# Altium footprint library D 电容.PCBLIB: 81 footprints (part 3 of 6)
Each footprint in its own frame and in the unit in brackets; x right, y up, seen from the top. Pads: shape width x height; smd on the part's side, far side on the other; paste and mask are expansions set on the pad; w line width, h text height; cw(c..) or ccw(c..) is an arc to the next point about the centre after c.
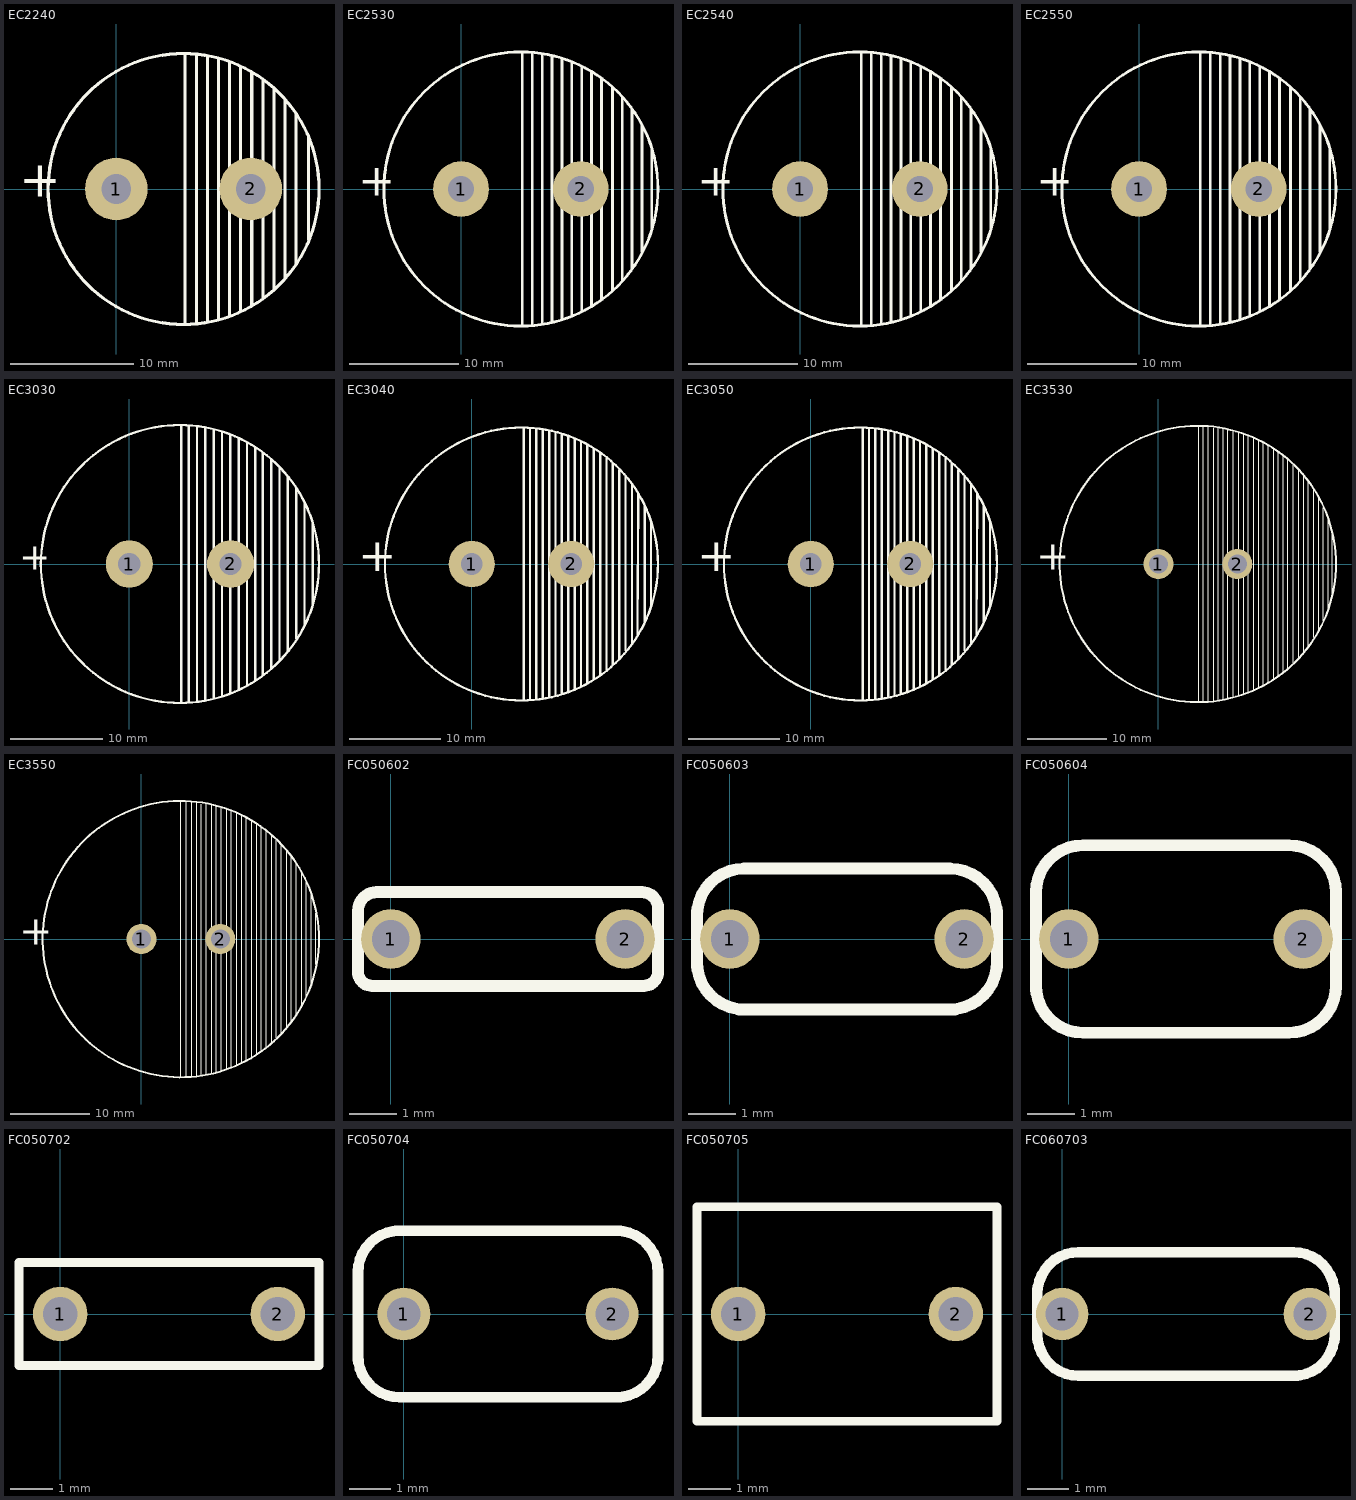
[diagram p2: the footprints below, top view; thin cyan lines are the x and y axes]

## EC2240 [mm] "电解电容/脚距10mm/直径22mm/高度40mm"
height 40
pads (2):
  round 5.08 hole 2.4: 1(0,0) 2(10.922,0)
Top Overlay:
  circle w0.254: c5.461,0 r11
  lines w0.254: 5.588,-10.922 5.588,0 ; 5.588,-6.731 5.588,10.922 ; 6.5,-10.79 6.5,10.8 ; 7.4,-10.8 7.4,10.7 ; 8.3,-10.5 8.3,10.5 ; 9.2,-10.215 9.2,10.3 ; 10.1,-9.9 10.1,9.9 ; 11,-9.4 11,9.4 ; 11.9,-8.9 11.9,8.8 ; 12.8,-8.1 12.8,8.1 ; 13.7,-7.2 13.7,7.2 ; 14.6,-6.1 14.6,6.1 ; 15.6,-4.1 15.6,4.2
  text "+" at -7.9,-1.6 h5.08
Bottom Overlay:
  text "+" at -3,-1.6 h5.08

## EC2530 [mm] "电解电容/脚距10mm/直径25mm/高度30mm"
height 30
pads (2):
  round 5.08 hole 2.4: 1(0,0) 2(10.922,0)
Top Overlay:
  circle w0.254: c5.461,0 r12.5
  lines w0.254: 5.588,-12.446 5.588,0 ; 5.588,-5.207 5.588,12.446 ; 6.5,-12.338 6.5,12.3 ; 7.4,-12.3 7.4,12.2 ; 8.3,-12.1 8.3,12.1 ; 9.2,-11.9 9.2,11.8 ; 10.1,-11.5 10.1,11.5 ; 11,-11.1 11,11.2 ; 11.9,-10.6 11.9,10.6 ; 12.8,-10.1 12.8,10.1 ; 13.8,-9.3 13.8,9.2 ; 14.7,-8.4 14.7,8.3 ; 15.6,-7.3 15.6,7.2 ; 16.5,-5.7 16.5,5.8 ; 17.4,-3.7 17.4,3.6
  text "+" at -9.4,-1.6 h5.08
Bottom Overlay:
  text "+" at -3,-1.5 h5.08

## EC2540 [mm] "电解电容/脚距10mm/直径25mm/高度40mm"
height 40
pads (2):
  round 5.08 hole 2.4: 1(0,0) 2(10.922,0)
Top Overlay:
  circle w0.254: c5.461,0 r12.5
  lines w0.254: 5.588,-12.446 5.588,0 ; 5.588,-5.207 5.588,12.446 ; 6.5,-12.338 6.5,12.3 ; 7.4,-12.3 7.4,12.2 ; 8.3,-12.1 8.3,12.1 ; 9.2,-11.9 9.2,11.8 ; 10.1,-11.5 10.1,11.5 ; 11,-11.1 11,11.2 ; 11.9,-10.6 11.9,10.6 ; 12.8,-10.1 12.8,10.1 ; 13.8,-9.3 13.8,9.2 ; 14.7,-8.4 14.7,8.3 ; 15.6,-7.3 15.6,7.2 ; 16.5,-5.7 16.5,5.8 ; 17.4,-3.7 17.4,3.6
  text "+" at -9.4,-1.6 h5.08
Bottom Overlay:
  text "+" at -3,-1.5 h5.08

## EC2550 [mm] "电解电容/脚距10mm/直径25mm/高度50mm"
height 50
pads (2):
  round 5.08 hole 2.4: 1(0,0) 2(10.922,0)
Top Overlay:
  circle w0.254: c5.461,0 r12.5
  lines w0.254: 5.588,-12.446 5.588,0 ; 5.588,-5.207 5.588,12.446 ; 6.5,-12.338 6.5,12.3 ; 7.4,-12.3 7.4,12.2 ; 8.3,-12.1 8.3,12.1 ; 9.2,-11.9 9.2,11.8 ; 10.1,-11.5 10.1,11.5 ; 11,-11.1 11,11.2 ; 11.9,-10.6 11.9,10.6 ; 12.8,-10.1 12.8,10.1 ; 13.8,-9.3 13.8,9.2 ; 14.7,-8.4 14.7,8.3 ; 15.6,-7.3 15.6,7.2 ; 16.5,-5.7 16.5,5.8 ; 17.4,-3.7 17.4,3.6
  text "+" at -9.4,-1.6 h5.08
Bottom Overlay:
  text "+" at -3,-1.5 h5.08

## EC3030 [mm] "电解电容/脚距10mm/直径30mm/高度30mm"
height 30
pads (2):
  round 5.08 hole 2.4: 1(0,0) 2(10.922,0)
Top Overlay:
  circle w0.254: c5.461,0 r15
  lines w0.254: 5.588,-14.986 5.588,0 ; 5.588,-2.667 5.588,14.986 ; 6.4,-14.818 6.4,14.9 ; 7.3,-14.8 7.3,14.8 ; 8.2,-14.7 8.2,14.6 ; 9.1,-14.5 9.1,14.5 ; 10,-14.2 10,14.2 ; 10.9,-13.9 10.9,13.9 ; 11.8,-13.5 11.8,13.5 ; 12.7,-13.062 12.7,13.1 ; 13.6,-12.5 13.6,12.5 ; 14.4,-12 14.4,12 ; 15.3,-11.179 15.3,11.3 ; 16.2,-10.4 16.2,10.4 ; 17.1,-9.3 17.1,9.4 ; 18,-8 18,8.1 ; 18.9,-6.6 18.9,6.7 ; 19.8,-4.3 19.8,4.3
  text "+" at -11.9,-1.6 h5.08
Bottom Overlay:
  text "+" at -3,-1.6 h5.08

## EC3040 [mm] "电解电容/脚距10mm/直径30mm/高度40mm"
height 40
pads (2):
  round 5.08 hole 2.4: 1(0,0) 2(10.922,0)
Top Overlay:
  circle w0.254: c5.461,0 r15
  lines w0.254: 5.7,-15 5.7,14.9 ; 6.4,-14.818 6.4,14.9 ; 7.1,-14.8 7.1,14.8 ; 7.8,-14.8 7.8,14.8 ; 8.5,-14.6 8.5,14.6 ; 9.2,-14.4 9.2,14.4 ; 9.9,-14.2 9.9,14.2 ; 10.6,-14.1 10.6,14.1 ; 11.3,-13.8 11.3,13.7 ; 12,-13.4 12,13.4 ; 12.7,-12.986 12.7,13.1 ; 13.4,-12.7 13.4,12.6 ; 14.1,-12.2 14.1,12.2 ; 14.8,-11.7 14.8,11.7 ; 15.5,-11.1 15.5,11.1 ; 16.2,-10.5 16.2,10.3 ; 16.9,-9.5 16.9,9.6 ; 17.6,-8.7 17.6,8.7 ; 18.2,-7.8 18.3,7.7 ; 19,-6.4 19,6.4 ; 19.7,-4.6 19.7,4.6
  text "+" at -12.5,-2 h6.35
Bottom Overlay:
  text "+" at -3.6,-2 h6.35

## EC3050 [mm] "电解电容/脚距10mm/直径30mm/高度50mm"
height 50
pads (2):
  round 5.08 hole 2.4: 1(0,0) 2(10.922,0)
Top Overlay:
  circle w0.254: c5.461,0 r15
  lines w0.254: 5.7,-15 5.7,14.9 ; 6.4,-14.818 6.4,14.9 ; 7.1,-14.8 7.1,14.8 ; 7.8,-14.8 7.8,14.8 ; 8.5,-14.6 8.5,14.6 ; 9.2,-14.4 9.2,14.4 ; 9.9,-14.2 9.9,14.2 ; 10.6,-14.1 10.6,14.1 ; 11.3,-13.8 11.3,13.7 ; 12,-13.4 12,13.4 ; 12.7,-12.986 12.7,13.1 ; 13.4,-12.7 13.4,12.6 ; 14.1,-12.2 14.1,12.2 ; 14.8,-11.7 14.8,11.7 ; 15.5,-11.1 15.5,11.1 ; 16.2,-10.5 16.2,10.3 ; 16.9,-9.5 16.9,9.6 ; 17.6,-8.7 17.6,8.7 ; 18.2,-7.8 18.3,7.7 ; 19,-6.4 19,6.4 ; 19.7,-4.6 19.7,4.6
  text "+" at -12.5,-2 h6.35
Bottom Overlay:
  text "+" at -3.6,-2 h6.35

## EC3530 [mm] "电解电容/脚距10mm/直径35mm/高度30mm"
height 30
pads (2):
  round 3.81 hole 2.4: 1(0,0) 2(10,0)
Top Overlay:
  circle w0.254: c5,0 r17.5
  lines w0.127: 5.1,-17.451 5.1,17.5 ; 5.7,-17.5 5.7,17.4 ; 6.3,-17.4 6.3,17.4 ; 7,-17.3 7,17.2 ; 7.6,-17.3 7.6,17.2 ; 8.2,-17.2 8.2,17.1 ; 8.8,-17 8.8,17.1 ; 9.5,-16.9 9.5,16.9 ; 10.2,-16.6 10.2,16.6 ; 10.8,-16.5 10.8,16.5 ; 11.4,-16.2 11.4,16.2 ; 12.1,-15.9 12.1,15.9 ; 12.7,-15.6 12.7,15.6 ; 13.3,-15.4 13.3,15.3 ; 13.9,-15 13.9,15 ; 14.6,-14.6 14.6,14.6 ; 15.2,-14.2 15.2,14.2 ; 15.8,-13.8 15.8,13.7 ; 16.4,-13.2 16.4,13.2 ; 17.1,-12.6 17.1,12.6 ; 17.8,-11.8 17.8,11.9 ; 18.4,-11.2 18.4,11.2 ; 19,-10.4 19,10.5 ; 19.7,-9.3 19.7,9.4 ; 20.3,-8.4 20.3,8.4 ; 20.9,-7.2 20.9,7.1 ; 21.5,-5.6 21.5,5.8 ; 22,-4 22,3.8
  text "+" at -15.5,-2 h6.35
Bottom Overlay:
  text "+" at -2.5,-2 h6.35

## EC3550 [mm] "电解电容/脚距10mm/直径35mm/高度50mm"
height 50
pads (2):
  round 3.81 hole 2.4: 1(0,0) 2(10,0)
Top Overlay:
  circle w0.254: c5,0 r17.5
  lines w0.127: 5,-17.425 5,17.526 ; 5.7,-17.5 5.7,17.4 ; 6.4,-17.4 6.4,17.3 ; 7,-17.3 7,17.2 ; 7.6,-17.3 7.6,17.1 ; 8.2,-17.2 8.2,17.1 ; 8.9,-17 8.9,16.9 ; 9.5,-16.9 9.5,16.8 ; 10.1,-16.7 10.1,16.7 ; 10.8,-16.5 10.8,16.4 ; 11.4,-16.2 11.4,16.2 ; 12.1,-15.9 12.1,15.9 ; 12.7,-15.6 12.7,15.7 ; 13.3,-15.4 13.3,15.4 ; 14,-14.9 14,15 ; 14.6,-14.5 14.6,14.6 ; 15.2,-14.1 15.2,14.1 ; 15.8,-13.7 15.8,13.7 ; 16.5,-13.1 16.5,13.1 ; 17.1,-12.5 17.1,12.6 ; 17.7,-12 17.7,12 ; 18.4,-11.2 18.4,11.1 ; 19,-10.4 19,10.4 ; 19.6,-9.5 19.6,9.6 ; 20.3,-8.4 20.3,8.5 ; 20.9,-7.3 20.9,7.3 ; 21.5,-5.7 21.5,5.6 ; 22.1,-3.2 22.1,3.3
  text "+" at -15.5,-2 h6.35
Bottom Overlay:
  text "+" at -2.8,-2 h6.35

## FC050602 [mm] "薄膜电容/脚距5mm/长6mm/宽2mm/高6mm"
height 6
pads (2):
  round 1.27 hole 0.8: 1(0,0) 2(5,0)
Top Overlay:
  lines w0.254: 0.2,-1 4.8,-1 5.4,-1 ccw(c5.4,-0.7) 5.7,-0.7 5.7,0.659 ccw(c5.359,0.659) 5.359,1 4.7,1 0.3,1 ; 0.8,-1 -0.4,-1 cw(c-0.4,-0.7) -0.7,-0.7 -0.7,0.6 cw(c-0.3,0.6) -0.3,1 1.3,1

## FC050603 [mm] "薄膜电容/脚距5mm/长6mm/宽3mm/高6mm"
height 6
pads (2):
  round 1.27 hole 0.8: 1(0,0) 2(5,0)
Top Overlay:
  lines w0.254: -0.7,-0.6 -0.7,0.6 ; -0.7,-0.5 ccw(c0.3,-0.5) 0.3,-1.5 ; -0.7,0.5 cw(c0.3,0.5) 0.3,1.5 4.7,1.5 cw(c4.7,0.5) 5.7,0.5 ; 0.2,-1.5 4.8,-1.5 ; 4.7,-1.5 ccw(c4.7,-0.5) 5.7,-0.5 ; 5.7,-0.6 5.7,0.6

## FC050604 [mm] "薄膜电容/脚距5mm/长6mm/宽4mm/高6mm"
height 6
pads (2):
  round 1.27 hole 0.8: 1(0,0) 2(5,0)
Top Overlay:
  lines w0.254: -0.7,-1.1 -0.7,1 cw(c0.3,1) 0.3,2 4.7,2 cw(c4.7,1) 5.7,1 5.7,-1 cw(c4.7,-1) 4.7,-2 0.3,-2 cw(c0.3,-1) -0.7,-1

## FC050702 [mm] "薄膜电容/脚距5mm/长7mm/宽2mm/高7mm"
height 7
pads (2):
  round 1.27 hole 0.8: 1(0,0) 2(5.08,0)
Top Overlay:
  lines w0.203: -0.96,-1.2 6.04,-1.2 6.04,1.2 -0.96,1.2 -0.96,-1.2

## FC050704 [mm] "薄膜电容/脚距5mm/长7mm/宽4mm/高9mm"
height 9
pads (2):
  round 1.27 hole 0.8: 1(0,0) 2(5,0)
Top Overlay:
  lines w0.254: -1.1,-1.1 -1.1,1 cw(c-0.1,1) -0.1,2 ; -1.1,-1 ccw(c-0.1,-1) -0.1,-2 5.2,-2 ; -0.2,2 5.2,2 ; 5.1,-2 ccw(c5.1,-1) 6.1,-1 ; 5.1,2 cw(c5.1,1) 6.1,1 6.1,-1.1

## FC050705 [mm] "薄膜电容/脚距5mm/长7mm/宽5mm/高11mm"
height 11
pads (2):
  round 1.27 hole 0.8: 1(0,0) 2(5.08,0)
Top Overlay:
  lines w0.203: -0.96,-2.5 6.04,-2.5 6.04,2.5 -0.96,2.5 -0.96,-2.5

## FC060703 [mm] "薄膜电容/脚距6mm/长7mm/宽3mm/高8mm"
height 6
pads (2):
  round 1.27 hole 0.8: 1(0,0) 2(6,0)
Top Overlay:
  lines w0.254: -0.6,-0.6 -0.6,0.6 ; -0.6,-0.5 ccw(c0.4,-0.5) 0.4,-1.5 5.7,-1.5 ; -0.6,0.5 cw(c0.4,0.5) 0.4,1.5 5.6,1.5 cw(c5.6,0.5) 6.6,0.5 ; 5.6,-1.5 ccw(c5.6,-0.5) 6.6,-0.5 ; 6.6,-0.6 6.6,0.6